# Altium integrated library RATA_LIB.IntLib: 15 symbols
Pins are listed as number, name and electrical type; pins without a type are passive.

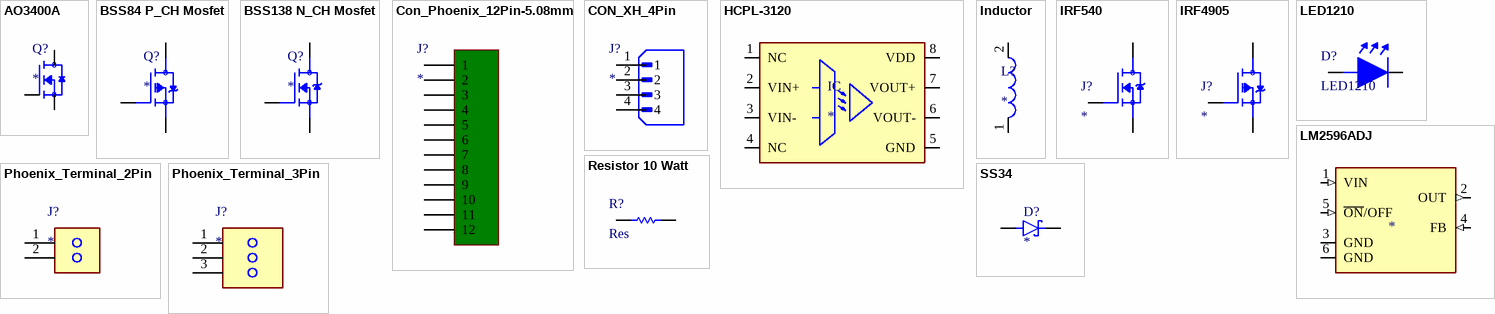
[diagram p0: symbols AO3400A to SS34]

## AO3400A
designator Q?
Trans MOSFET N-CH 30V 5.7A 3-Pin SOT-23; MP: AO3400A; Package: None; Price: None; Availability: Unavailable; Value: *
footprint AO3400A
pins: 1 G, 2 S, 3 D

## BSS84 P_CH Mosfet
designator Q?
P-Channel 50V 130mA (Ta) 360mW (Ta) Surface Mount SOT-23-3; MF: ON Semiconductor; MP: BSS84; Price: None; SnapEDA_Link: https://www.snapeda.com/parts/BSS84/ON%20Semiconductor/view-part/4792720/?ref=snap; Availability: Good; Value: *; Purchase-URL: https://pricing.snapeda.com/search/part/BSS84/?ref=eda; Package: SOT-23 ON Semiconductor; Check_prices: https://www.snapeda.com/parts/BSS84/ON%20Semiconductor/view-part/4792720/?ref=eda
footprint BSS_84
pins: D, G, S

## BSS138 N_CH Mosfet
designator Q?
N-Channel 50V 220mA (Ta) 360mW (Ta) Surface Mount SOT-23-3; MP: BSS138; MF: ON Semiconductor; Price: None; SnapEDA_Link: https://www.snapeda.com/parts/BSS138/ON%20Semiconductor/view-part/4794929/?ref=snap; Availability: Good; Purchase-URL: https://pricing.snapeda.com/search/part/BSS138/?ref=eda; Value: *; Check_prices: https://www.snapeda.com/parts/BSS138/ON%20Semiconductor/view-part/4794929/?ref=eda; Package: SOT-23 ON Semiconductor
footprint BSS_138
pins: D, G, S

## Con_Phoenix_12Pin-5.08mm
designator J?
footprint Phoenix_12Pin_5.08mm
pins: 1, 2, 3, 4, 5, 6, 7, 8, 9, 10, 11, 12

## CON_XH_4Pin
designator J?
Connector Header Through Hole 4 position 0.098 (2.50mm); MF: JST Sales; MP: B4B-XH-A(LF)(SN); SnapEDA_Link: https://www.snapeda.com/parts/B4B-XH-A(LF)(SN)/JST+Sales+America+Inc./view-part/?ref=snap; Package: None; Value: *; Check_prices: https://www.snapeda.com/parts/B4B-XH-A(LF)(SN)/JST+Sales+America+Inc./view-part/?ref=eda
footprint CON_XH_4Pin
pins: 1, 2, 3, 4

## HCPL-3120
designator IC
2.5A Gate Driver Optical Coupling 3750Vrms 1 Channel 8-DIP; MF: Broadcom Limited; SnapEDA_Link: https://www.snapeda.com/parts/HCPL-3120/Broadcom%20Limited/view-part/4218888/?ref=snap; Availability: Unavailable; MP: HCPL-3120; Price: None; Value: *; Package: DIP-8 Broadcom / Avago
footprint HCPL3120 (Single Channel Gate Driver)
pins: 1 NC (power), 2 VIN+ (power), 3 VIN- (power), 4 NC (power), 5 GND (power), 6 VOUT- (power), 7 VOUT+ (power), 8 VDD (power)

## Inductor
designator L?
MF: Bourns; MP: SRR1260-330M; Value: *; Check_prices: https://www.snapeda.com/parts/SRR1260-330M/Bourns/view-part/?ref=eda; SnapEDA_Link: https://www.snapeda.com/parts/SRR1260-330M/Bourns/view-part/?ref=snap; Availability: Not in stock; Package: Nonstandard Bourns; Price: None
footprint Inductor_SMD_12.5*12.5
pins: 1, 2

## IRF540
designator J?
N Channel 36A Mosfet
footprint TO220-3
pins: D, G, S

## IRF4905
designator J?
P Channel 74A Mosfet
footprint TO-220 AB (Epoxy meets UL94)
pins: D, G, S

## LED1210
designator D?
1210 LED
footprint LED1210
pins: A, K

## LM2596ADJ
designator ?
MP: LM2596-ADJ; MF: First Components; SnapEDA_Link: https://www.snapeda.com/parts/LM2596-ADJ/First%20Components/view-part/557542/?ref=snap; Availability: Unavailable; Price: None; Value: *; Package: None
footprint LM2596ADJ
pins: 1 VIN (in), 2 OUT (out), 3 GND (power), 4 FB (in), 5 ~{ON}/OFF (in), 6 GND (power)

## Phoenix_Terminal_2Pin
designator J?
MF: {'manufacturer': u'Phoenix Contact'}; MP: 1935161; Package: None; Price: None; Value: *; Availability: Unavailable
footprint Phoenix_Terminal_2Pin
pins: 1, 2

## Phoenix_Terminal_3Pin
designator J?
HEADER, PCB, SCREW, 5.08MM, 3WAY; Connector Type: PCB; Series: MKDSN 2, 5; Connector Mounting: PCB; Pitch Spacing: 5....; MP: MKDSN2,5/3-5.08; MF: Phoenix Contact; Availability: Not in stock; SnapEDA_Link: https://www.snapeda.com/parts/MKDSN2,5/3-5.08/Phoenix+Contact/view-part/?ref=snap; Package: None; Check_prices: https://www.snapeda.com/parts/MKDSN2,5/3-5.08/Phoenix+Contact/view-part/?ref=eda; Value: *; Price: None
footprint Phoenix_Terminal_3Pin
pins: 1, 2, 3

## Resistor 10 Watt
designator R?, comment Res
Resisitor 10 Wat THD
footprint RES10Watt (Ressitor 10 Watt THD)
pins: 1, 2

## SS34
designator D?
Diode Schottky 40 V 3A Surface Mount SMC (DO-214AB); MF: onsemi; MP: SS34; SnapEDA_Link: https://www.snapeda.com/parts/SS34/Onsemi/view-part/?ref=snap; Package: SMC-2 ON Semiconductor; Value: *; Check_prices: https://www.snapeda.com/parts/SS34/Onsemi/view-part/?ref=eda
footprint DO_214AB_SS34
pins: A, C K